# Altium footprint library Board_IV-11_Clock.PcbLib: 30 footprints (part 1 of 2)
Each footprint in its own frame and in the unit in brackets; x right, y up, seen from the top. Pads: shape width x height; smd on the part's side, far side on the other; paste and mask are expansions set on the pad; w line width, h text height; cw(c..) or ccw(c..) is an arc to the next point about the centre after c.
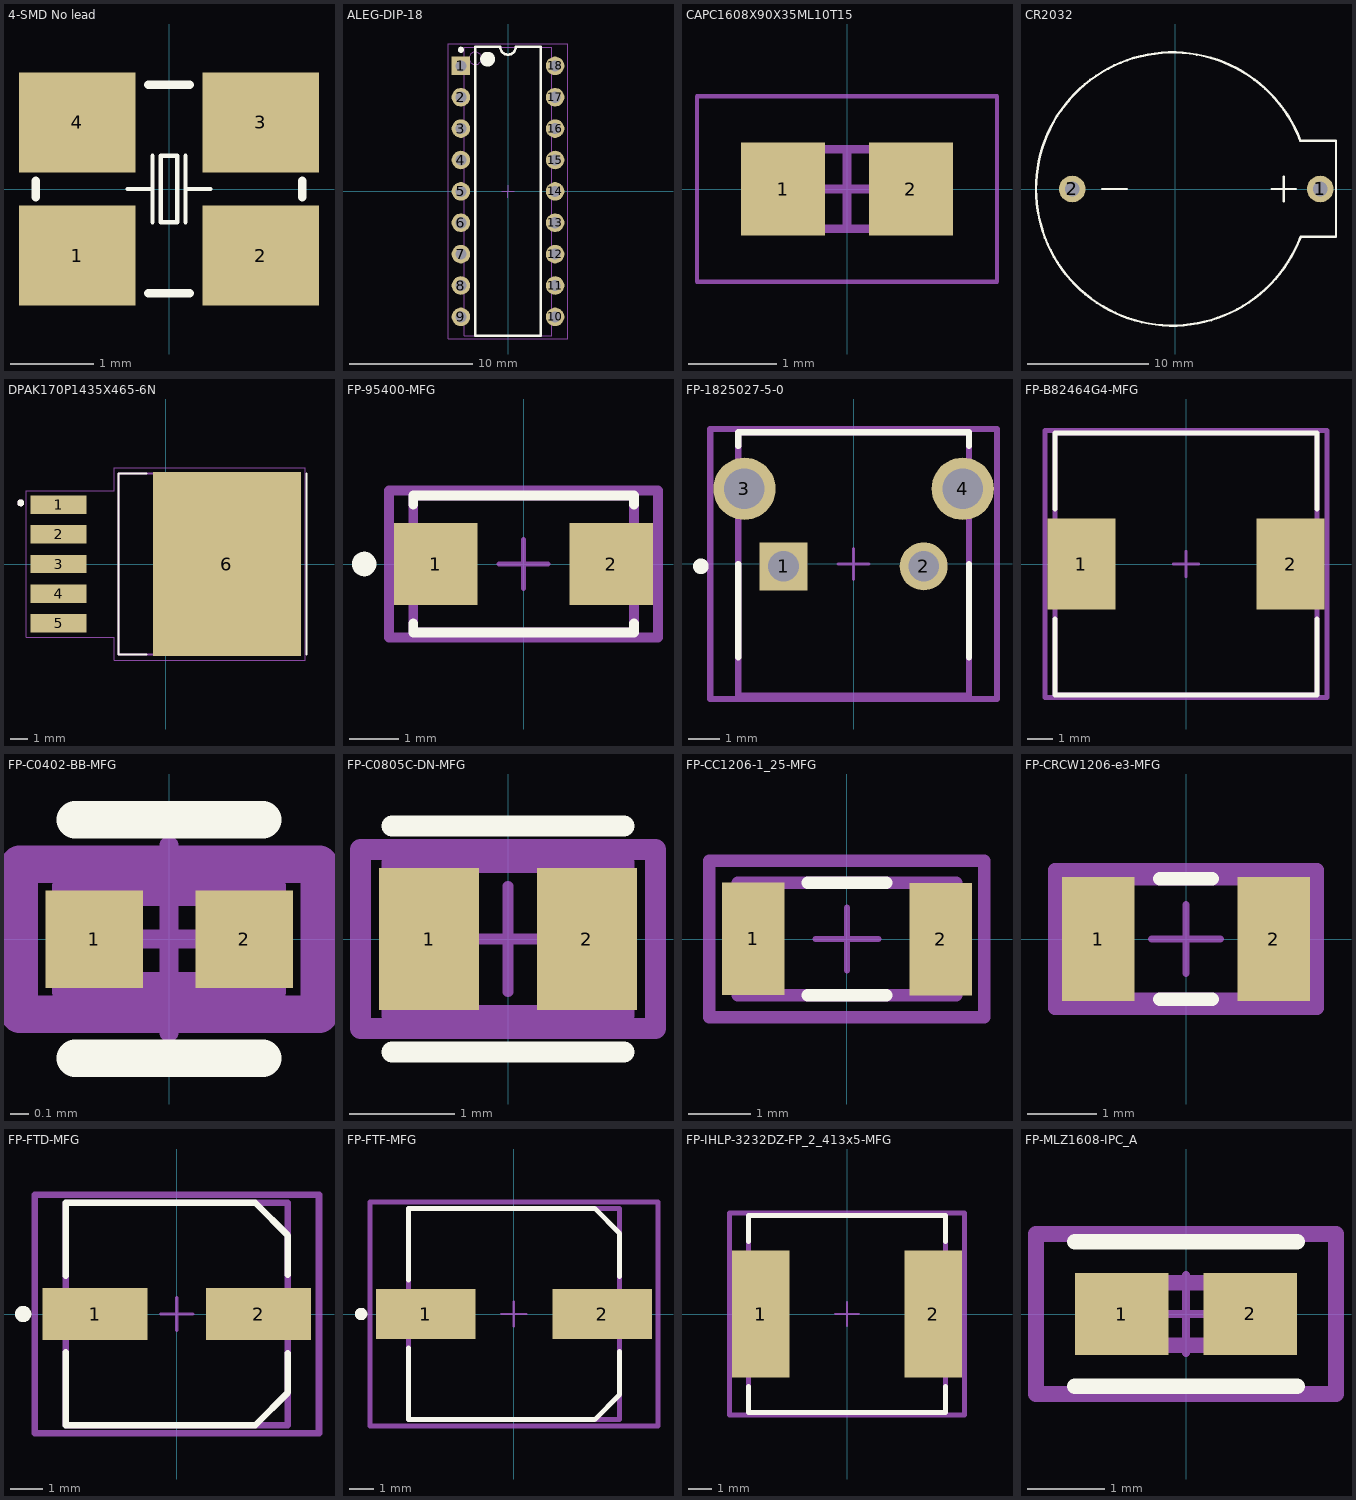
[diagram p0: the footprints below, top view; thin cyan lines are the x and y axes]

## 4-SMD No lead [mm] "4-SMD No lead"
height 0.33
pads (4):
  rect 1.4x1.2 smd mask+0.05: 1(-1.1,-0.8) 2(1.1,-0.8) 3(1.1,0.8) 4(-1.1,0.8)
Top Overlay:
  lines w0.05: -0.5,0 -0.2,0 ; -0.2,-0.4 -0.2,0.4 ; 0.2,-0.4 0.2,0.4 ; 0.2,0 0.5,0 ; -0.1,-0.4 0.1,-0.4 0.1,0.4 -0.1,0.4 -0.1,-0.4
  lines w0.1: -1.6,-0.1 -1.6,0.1 ; -0.25,-1.25 0.25,-1.25 ; -0.25,1.25 0.25,1.25 ; 1.6,-0.1 1.6,0.1

## ALEG-DIP-18 [mm] "DIP, 8-Leads, Body 23.35x7.1mm, Pitch 2.54mm"
height 5.33
pads (18):
  rect 1.5x1.5 hole 0.9: 1(-3.81,10.16)
  round 1.5 hole 0.9: 2(-3.81,7.62) 3(-3.81,5.08) 4(-3.81,2.54) 5(-3.81,0) 6(-3.81,-2.54) 7(-3.81,-5.08) 8(-3.81,-7.62) 9(-3.81,-10.16) 10(3.81,-10.16) 11(3.81,-7.62) 12(3.81,-5.08) 13(3.81,-2.54) 14(3.81,0) 15(3.81,2.54) 16(3.81,5.08) 17(3.81,7.62) 18(3.81,10.16)
Top Overlay:
  circle w0.25: c-3.81,11.46 r0.125
  circle w0.6: c-1.65,10.7 r0.3
  lines w0.2: -2.65,-11.7 -2.65,11.7 -0.635,11.7 ccw(c0,11.7) 0.635,11.7 2.65,11.7 2.65,-11.7 -2.65,-11.7
Top 3D Body:
  circle w0.1: c-2.65,10.775 r0.5
  lines w0.1: -3.55,-11.675 -3.55,11.675 3.55,11.675 3.55,-11.675 -3.55,-11.675
Top Courtyard:
  lines w0.05: -4.85,-11.95 -4.85,11.95 4.85,11.95 4.85,-11.95 -4.85,-11.95
  lines w0.1: -0.5,0 0.5,0 ; 0,-0.5 0,0.5
3D body: height 5.33, standoff 0.39, extent -3.55,-11.675 3.55,11.675
3D body: height 0, standoff -1.6, extent 3.675,9.8 3.945,10.52
3D body: height 3, standoff 2.73, extent 3.55,9.66 3.945,10.66
3D body: height 2.73, standoff 0, extent 3.675,9.66 3.945,10.66
3D body: height 0, standoff -1.6, extent 3.675,7.26 3.945,7.98
3D body: height 3, standoff 2.73, extent 3.55,7.12 3.945,8.12
3D body: height 2.73, standoff 0, extent 3.675,7.12 3.945,8.12
3D body: height 0, standoff -1.6, extent 3.675,4.72 3.945,5.44
3D body: height 3, standoff 2.73, extent 3.55,4.58 3.945,5.58
3D body: height 2.73, standoff 0, extent 3.675,4.58 3.945,5.58
3D body: height 0, standoff -1.6, extent 3.675,2.18 3.945,2.9
3D body: height 3, standoff 2.73, extent 3.55,2.04 3.945,3.04
3D body: height 2.73, standoff 0, extent 3.675,2.04 3.945,3.04
3D body: height 0, standoff -1.6, extent 3.675,-0.36 3.945,0.36
3D body: height 3, standoff 2.73, extent 3.55,-0.5 3.945,0.5
3D body: height 2.73, standoff 0, extent 3.675,-0.5 3.945,0.5
3D body: height 0, standoff -1.6, extent 3.675,-2.9 3.945,-2.18
3D body: height 3, standoff 2.73, extent 3.55,-3.04 3.945,-2.04
3D body: height 2.73, standoff 0, extent 3.675,-3.04 3.945,-2.04
3D body: height 0, standoff -1.6, extent 3.675,-5.44 3.945,-4.72
3D body: height 3, standoff 2.73, extent 3.55,-5.58 3.945,-4.58
3D body: height 2.73, standoff 0, extent 3.675,-5.58 3.945,-4.58
3D body: height 0, standoff -1.6, extent 3.675,-7.98 3.945,-7.26
3D body: height 3, standoff 2.73, extent 3.55,-8.12 3.945,-7.12
3D body: height 2.73, standoff 0, extent 3.675,-8.12 3.945,-7.12
3D body: height 0, standoff -1.6, extent 3.675,-10.52 3.945,-9.8
3D body: height 3, standoff 2.73, extent 3.55,-10.66 3.945,-9.66
3D body: height 2.73, standoff 0, extent 3.675,-10.66 3.945,-9.66
3D body: height 0, standoff -1.6, extent -3.945,-10.52 -3.675,-9.8
3D body: height 3, standoff 2.73, extent -3.945,-10.66 -3.55,-9.66
3D body: height 2.73, standoff 0, extent -3.945,-10.66 -3.675,-9.66
3D body: height 0, standoff -1.6, extent -3.945,-7.98 -3.675,-7.26
3D body: height 3, standoff 2.73, extent -3.945,-8.12 -3.55,-7.12
3D body: height 2.73, standoff 0, extent -3.945,-8.12 -3.675,-7.12
3D body: height 0, standoff -1.6, extent -3.945,-5.44 -3.675,-4.72
3D body: height 3, standoff 2.73, extent -3.945,-5.58 -3.55,-4.58
3D body: height 2.73, standoff 0, extent -3.945,-5.58 -3.675,-4.58
3D body: height 0, standoff -1.6, extent -3.945,-2.9 -3.675,-2.18
3D body: height 3, standoff 2.73, extent -3.945,-3.04 -3.55,-2.04
3D body: height 2.73, standoff 0, extent -3.945,-3.04 -3.675,-2.04
3D body: height 0, standoff -1.6, extent -3.945,-0.36 -3.675,0.36
3D body: height 3, standoff 2.73, extent -3.945,-0.5 -3.55,0.5
3D body: height 2.73, standoff 0, extent -3.945,-0.5 -3.675,0.5
3D body: height 0, standoff -1.6, extent -3.945,2.18 -3.675,2.9
3D body: height 3, standoff 2.73, extent -3.945,2.04 -3.55,3.04
3D body: height 2.73, standoff 0, extent -3.945,2.04 -3.675,3.04
3D body: height 0, standoff -1.6, extent -3.945,4.72 -3.675,5.44
3D body: height 3, standoff 2.73, extent -3.945,4.58 -3.55,5.58
3D body: height 2.73, standoff 0, extent -3.945,4.58 -3.675,5.58
3D body: height 0, standoff -1.6, extent -3.945,7.26 -3.675,7.98
3D body: height 3, standoff 2.73, extent -3.945,7.12 -3.55,8.12
3D body: height 2.73, standoff 0, extent -3.945,7.12 -3.675,8.12
3D body: height 0, standoff -1.6, extent -3.945,9.8 -3.675,10.52
3D body: height 3, standoff 2.73, extent -3.945,9.66 -3.55,10.66
3D body: height 2.73, standoff 0, extent -3.945,9.66 -3.675,10.66

## CAPC1608X90X35ML10T15 [mm] "Chip Capacitor, 2-Leads, Body 1.7x0.9mm, IPC Low Density"
height 0.9
pads (2):
  rect 0.95x1.05 smd: 1(-0.725,0) 2(0.725,0)
Top 3D Body:
  lines w0.1: -0.85,-0.45 -0.85,0.45 0.85,0.45 0.85,-0.45 -0.85,-0.45
Top Courtyard:
  lines w0.05: -1.7,-1.05 -1.7,1.05 1.7,1.05 1.7,-1.05 -1.7,-1.05
  lines w0.1: -0.45,0 0.45,0 ; 0,-0.45 0,0.45
3D body "CAPC1608X09M.step": height 0.9, standoff 0, extent -0.85,-0.45 0.85,0.45

## CR2032 [mm]
pads (2):
  round 2.2 hole 1.2: 1(12,0) 2(-8.5,0)
Top Overlay:
  lines w0.2: -6,0.002 -4,0.002 ; 8,0 10,0 ; 9,-1 9,1 ; 10.373,-3.952 13.305,-3.952 13.305,0.002 13.305,4.002 ; 10.381,-3.944 cw(c-0.2,0) 10.36,4 13.3,4
3D body "CR2032 battery holder.SLDPRT": height 8, standoff -2.95, extent -11.3,-11.3 12.2,11.3

## DPAK170P1435X465-6N [mm]
height 4.65
pads (6):
  rect 3.21x1.05 smd: 1(-6.13,3.4) 2(-6.13,1.7) 3(-6.13,0) 4(-6.13,-1.7) 5(-6.13,-3.4)
  rect 8.46x10.53 smd paste-6: 6(3.5,0)
Top Overlay:
  circle w0.2: c-8.3,3.5 r0.1
  lines w0.127: -1.1,-5.18 -2.705,-5.18 -2.705,5.18 -1.1,5.18 ; 8.05,-5.18 8.05,5.18
Top Paste:
  region: 0.95,-4.93 -0.31,-4.93 -0.31,-3.51 0.95,-3.51
  region: 0.95,-2.82 -0.31,-2.82 -0.31,-1.4 0.95,-1.4
  region: 3.07,3.51 1.81,3.51 1.81,4.93 3.07,4.93
  region: 0.95,3.51 -0.31,3.51 -0.31,4.93 0.95,4.93
  region: 0.95,1.4 -0.31,1.4 -0.31,2.82 0.95,2.82
  region: 3.07,1.4 1.81,1.4 1.81,2.82 3.07,2.82
  region: 3.07,-4.93 1.81,-4.93 1.81,-3.51 3.07,-3.51
  region: 3.07,-2.82 1.81,-2.82 1.81,-1.4 3.07,-1.4
  region: 7.31,-4.93 6.05,-4.93 6.05,-3.51 7.31,-3.51
  region: 7.31,-2.82 6.05,-2.82 6.05,-1.4 7.31,-1.4
  region: 7.31,3.51 6.05,3.51 6.05,4.93 7.31,4.93
  region: 7.31,1.4 6.05,1.4 6.05,2.82 7.31,2.82
  region: 5.19,-4.93 3.93,-4.93 3.93,-3.51 5.19,-3.51
  region: 5.19,-2.82 3.93,-2.82 3.93,-1.4 5.19,-1.4
  region: 5.19,3.51 3.93,3.51 3.93,4.93 5.19,4.93
  region: 5.19,1.4 3.93,1.4 3.93,2.82 5.19,2.82
  region: 0.95,-0.71 -0.31,-0.71 -0.31,0.71 0.95,0.71
  region: 3.07,-0.71 1.81,-0.71 1.81,0.71 3.07,0.71
  region: 7.31,-0.71 6.05,-0.71 6.05,0.71 7.31,0.71
  region: 5.19,-0.71 3.93,-0.71 3.93,0.71 5.19,0.71
Top 3D Body:
  circle w0.2: c-8.3,3.5 r0.1
  lines w0.127: -2.705,-5.18 6.195,-5.18 6.195,5.18 -2.705,5.18 -2.705,-5.18
Top Courtyard:
  lines w0.05: -7.99,-4.18 -2.96,-4.18 -2.96,-5.52 7.98,-5.52 7.98,5.52 -2.96,5.52 -2.96,4.18 -7.99,4.18 -7.99,-4.18
3D body "step_temp.STEP": height 4.65, standoff 0, extent -7.175,-5.08 7.175,5.08

## FP-95400-MFG [mm] "TSLP, 2-Leads, Body 1x0.6mm, Pitch 0.65mm"
height 0.4
pads (2):
  rect 1.7x1.68 smd paste+0 mask+0: 1(-1.79,0) 2(1.79,0)
Top Overlay:
  circle w0.25: c-3.25,0 r0.125
  lines w0.2: -2.25,-1.215 -2.25,-1.395 2.25,-1.395 2.25,-1.215 ; -2.25,1.215 -2.25,1.395 2.25,1.395 2.25,1.215
Top Assembly:
  lines w0.2: -2.74,-1.495 -2.74,1.495 2.74,1.495 2.74,-1.495 -2.74,-1.495
  text ".Designator" at 0,-0.938 h1
Top 3D Body:
  lines w0.2: -2.25,-1.395 -2.25,1.395 2.25,1.395 2.25,-1.395 -2.25,-1.395
Top Courtyard:
  lines w0.2: -2.74,-1.495 -2.74,1.495 2.74,1.495 2.74,-1.495 -2.74,-1.495
Top Component Center:
  lines w0.1: -0.5,0 0.5,0 ; 0,-0.5 0,0.5
3D body "Diode_Vishay_US1M-E3-61T_eec.STEP": height 0.25, standoff 0, extent -2.74,-1.495 2.74,1.495

## FP-1825027-5-0 [mm]
height 0.33
pads (4):
  rect 1.54x1.54 hole 0.99 paste-1000 mask+0: 1(-2.25,-0.075)
  round 1.54 hole 0.99 paste-1000 mask+0: 2(2.25,-0.075)
  round 2 hole 1.3 paste-1000 mask+0: 3(-3.505,2.415) 4(3.505,2.415)
Top Overlay:
  circle w0.25: c-4.905,-0.075 r0.125
  lines w0.2: -3.705,-2.995 -3.705,0 ; -3.705,3.79 -3.705,4.235 3.705,4.235 3.705,3.79 ; 3.705,-2.995 3.705,0
Top Assembly:
  lines w0.2: -4.605,-4.335 -4.605,4.335 4.605,4.335 4.605,-4.335 -4.605,-4.335
Top 3D Body:
  lines w0.2: -3.705,-4.235 -3.705,4.235 3.705,4.235 3.705,-4.235 -3.705,-4.235
Top Courtyard:
  lines w0.2: -4.605,-4.335 -4.605,4.335 4.605,4.335 4.605,-4.335 -4.605,-4.335
Top Component Center:
  lines w0.1: -0.5,0 0.5,0 ; 0,-0.5 0,0.5
3D body "Switch_TE_Connectivity_1825027-5_eec.STEP": height 0.25, standoff 0, extent -4.605,-4.335 4.605,4.335

## FP-B82464G4-MFG [mm]
height 0.33
pads (2):
  rect 2.7x3.6 smd paste+0 mask+0: 1(-4.15,0) 2(4.15,0)
Top Overlay:
  lines w0.2: -5.2,-2.175 -5.2,-5.2 5.2,-5.2 5.2,-2.175 ; -5.2,2.175 -5.2,5.2 5.2,5.2 5.2,2.175
Top Assembly:
  lines w0.2: -5.6,-5.3 5.6,-5.3 5.6,5.3 -5.6,5.3 -5.6,-5.3
Top 3D Body:
  lines w0.2: -5.2,-5.2 5.2,-5.2 5.2,5.2 -5.2,5.2 -5.2,-5.2
Top Courtyard:
  lines w0.2: -5.6,-5.3 5.6,-5.3 5.6,5.3 -5.6,5.3 -5.6,-5.3
Top Component Center:
  lines w0.1: -0.5,0 0.5,0 ; 0,-0.5 0,0.5
3D body "Ind_EPCOS_B82464G4683M000_eec.STEP": height 0.25, standoff 0, extent -5.6,-5.3 5.6,5.3

## FP-C0402-BB-MFG [mm]
height 1.1
pads (2):
  rect 0.52x0.52 smd paste+0 mask+0: 1(-0.4,0) 2(0.4,0)
Top Overlay:
  lines w0.2: -0.5,-0.635 0.5,-0.635 ; -0.5,0.635 0.5,0.635
Top Assembly:
  lines w0.2: -0.8,-0.4 -0.8,0.4 0.8,0.4 0.8,-0.4 -0.8,-0.4
Top 3D Body:
  lines w0.2: -0.525,-0.275 -0.525,0.275 0.525,0.275 0.525,-0.275 -0.525,-0.275
Top Courtyard:
  lines w0.2: -0.8,-0.4 -0.8,0.4 0.8,0.4 0.8,-0.4 -0.8,-0.4
Top Component Center:
  lines w0.1: -0.5,0 0.5,0 ; 0,-0.5 0,0.5
3D body "Cap_Kemet_C0402C562J5RACTU_eec.STEP": height 0.25, standoff 0, extent -0.8,-0.4 0.8,0.4

## FP-C0805C-DN-MFG [mm]
height 7.87
pads (2):
  rect 0.95x1.35 smd paste+0 mask+0: 1(-0.75,0) 2(0.75,0)
Top Overlay:
  lines w0.2: -1.1,-1.075 1.1,-1.075 ; -1.1,1.075 1.1,1.075
Top Assembly:
  lines w0.2: -1.4,-0.85 1.4,-0.85 1.4,0.85 -1.4,0.85 -1.4,-0.85
  text ".Designator" at 0,-0.519 h1
Top 3D Body:
  lines w0.2: -1.1,-0.725 1.1,-0.725 1.1,0.725 -1.1,0.725 -1.1,-0.725
Top Courtyard:
  lines w0.2: -1.4,-0.85 1.4,-0.85 1.4,0.85 -1.4,0.85 -1.4,-0.85
Top Component Center:
  lines w0.1: -0.5,0 0.5,0 ; 0,-0.5 0,0.5
3D body "Cap_KEMET_C0805C472J3HAC_eec.STEP": height 0.25, standoff 0, extent -1.4,-0.85 1.4,0.85

## FP-CC1206-1_25-MFG [mm]
height 1.1
pads (2):
  rect 1x1.8 smd paste+0 mask+0: 1(-1.5,0) 2(1.5,0)
Top Overlay:
  lines w0.2: -0.625,-0.9 0.625,-0.9 ; -0.625,0.9 0.625,0.9
Top Assembly:
  lines w0.2: -2.2,-1.25 -2.2,1.25 2.2,1.25 2.2,-1.25 -2.2,-1.25
  text ".Designator" at 0,-0.519 h1
Top 3D Body:
  lines w0.2: -1.75,-0.9 -1.75,0.9 1.75,0.9 1.75,-0.9 -1.75,-0.9
Top Courtyard:
  lines w0.2: -2.2,-1.25 -2.2,1.25 2.2,1.25 2.2,-1.25 -2.2,-1.25
Top Component Center:
  lines w0.1: -0.5,0 0.5,0 ; 0,-0.5 0,0.5
3D body "Cap_Yageo_CC1206KKX7R8BB105_eec.STEP": height 0.25, standoff 0, extent -2.2,-1.25 2.2,1.25

## FP-CRCW1206-e3-MFG [mm]
height 0.6
pads (2):
  rect 1.05x1.8 smd paste+0 mask+0: 1(-1.275,0) 2(1.275,0)
Top Overlay:
  lines w0.2: -0.375,-0.875 0.375,-0.875 ; -0.375,0.875 0.375,0.875
Top Assembly:
  lines w0.2: -1.9,-1 1.9,-1 1.9,1 -1.9,1 -1.9,-1
Top 3D Body:
  lines w0.2: -1.65,-0.875 1.65,-0.875 1.65,0.875 -1.65,0.875 -1.65,-0.875
Top Courtyard:
  lines w0.2: -1.9,-1 1.9,-1 1.9,1 -1.9,1 -1.9,-1
Top Component Center:
  lines w0.1: -0.5,0 0.5,0 ; 0,-0.5 0,0.5
3D body "Res_Vishay_CRCW1206619RFKEB_eec.STEP": height 0.25, standoff 0, extent -1.9,-1 1.9,1

## FP-FTD-MFG [mm] "Aluminum Electrolytic Capacitors, 13x30mm"
height 1.7
pads (2):
  rect 3.2x1.6 smd paste+0 mask+0: 1(-2.5,0) 2(2.5,0)
Top Overlay:
  circle w0.25: c-4.7,0 r0.125
  lines w0.2: -3.4,-1.175 -3.4,-3.4 2.4,-3.4 3.4,-2.4 3.4,-1.2 ; -3.4,1.175 -3.4,3.4 2.4,3.4 3.4,2.4 3.4,1.2
Top Assembly:
  lines w0.2: -4.35,-3.65 -4.35,3.65 4.35,3.65 4.35,-3.65 -4.35,-3.65
  text ".Designator" at 0,-0.872 h1
Top 3D Body:
  lines w0.2: -3.4,-3.4 -3.4,3.4 3.4,3.4 3.4,-3.4 -3.4,-3.4
Top Courtyard:
  lines w0.2: -4.35,-3.65 -4.35,3.65 4.35,3.65 4.35,-3.65 -4.35,-3.65
Top Component Center:
  lines w0.1: -0.5,0 0.5,0 ; 0,-0.5 0,0.5
3D body "Cap_Panasonic_EEEFT1V101AP_eec.STEP": height 0.25, standoff 0, extent -4.35,-3.65 4.35,3.65

## FP-FTF-MFG [mm] "Aluminum Electrolytic Capacitors, 13x30mm"
height 0.33
pads (2):
  rect 4x2 smd paste+0 mask+0: 1(-3.55,0) 2(3.55,0)
Top Overlay:
  circle w0.25: c-6.15,0 r0.125
  lines w0.2: -4.25,-1.375 -4.25,-4.25 3.25,-4.25 4.25,-3.25 4.25,-1.5 ; -4.25,1.375 -4.25,4.25 3.25,4.25 4.25,3.25 4.25,1.5
Top Assembly:
  lines w0.2: -5.8,-4.5 5.8,-4.5 5.8,4.5 -5.8,4.5 -5.8,-4.5
Top 3D Body:
  lines w0.2: -4.25,-4.25 4.25,-4.25 4.25,4.25 -4.25,4.25 -4.25,-4.25
Top Courtyard:
  lines w0.2: -5.8,-4.5 5.8,-4.5 5.8,4.5 -5.8,4.5 -5.8,-4.5
Top Component Center:
  lines w0.1: -0.5,0 0.5,0 ; 0,-0.5 0,0.5
3D body "Cap_Panasonic_EEEFT1E471AP_eec.STEP": height 0.25, standoff 0, extent -5.8,-4.5 5.8,4.5

## FP-IHLP-3232DZ-FP_2_413x5-MFG [mil]
height 15.75
pads (2):
  rect 95x210 smd paste+0 mask+0: 1(-142.5,0) 2(142.5,0)
Top Overlay:
  lines w7.87: -162.52,-119.76 -162.52,-162.52 162.52,-162.52 162.52,-119.76 ; -162.52,119.76 -162.52,162.52 162.52,162.52 162.52,119.76
Top Assembly:
  lines w7.87: -193.94,-166.46 -193.94,166.46 193.94,166.46 193.94,-166.46 -193.94,-166.46
Top 3D Body:
  lines w7.87: -162.52,-162.52 -162.52,162.52 162.52,162.52 162.52,-162.52 -162.52,-162.52
Top Courtyard:
  lines w7.87: -193.94,-166.46 -193.94,166.46 193.94,166.46 193.94,-166.46 -193.94,-166.46
Top Component Center:
  lines w3.94: -19.68,0 19.68,0 ; 0,-19.68 0,19.68
3D body "Ind_Vishay_IHLP3232DZER4R7M11_eec.STEP": height 10, standoff 0, extent -193.94,-166.46 193.94,166.46

## FP-MLZ1608-IPC_A [mm]
height 0.55
pads (2):
  rect 1.206x1.058 smd paste+0 mask+0: 1(-0.826,0) 2(0.826,0)
Top Overlay:
  lines w0.2: -1.429,-0.929 1.429,-0.929 ; -1.429,0.929 1.429,0.929
Top Assembly:
  lines w0.2: -1.929,-1.029 1.929,-1.029 1.929,1.029 -1.929,1.029 -1.929,-1.029
  text ".Designator" at 0,-0.872 h1
Top 3D Body:
  lines w0.2: -0.8,-0.4 0.8,-0.4 0.8,0.4 -0.8,0.4 -0.8,-0.4
Top Courtyard:
  lines w0.2: -1.929,-1.029 1.929,-1.029 1.929,1.029 -1.929,1.029 -1.929,-1.029
Top Component Center:
  lines w0.1: -0.5,0 0.5,0 ; 0,-0.5 0,0.5
3D body "Ind_TDK_MLZ1608A1R0WT000_eec.STEP": height 0.25, standoff 0, extent -1.929,-1.029 1.929,1.029